# Altium footprint library PcbLib1.PcbLib: 2 footprints
Each footprint in its own frame and in the unit in brackets; x right, y up, seen from the top. Pads: shape width x height; smd on the part's side, far side on the other; paste and mask are expansions set on the pad; w line width, h text height; cw(c..) or ccw(c..) is an arc to the next point about the centre after c.
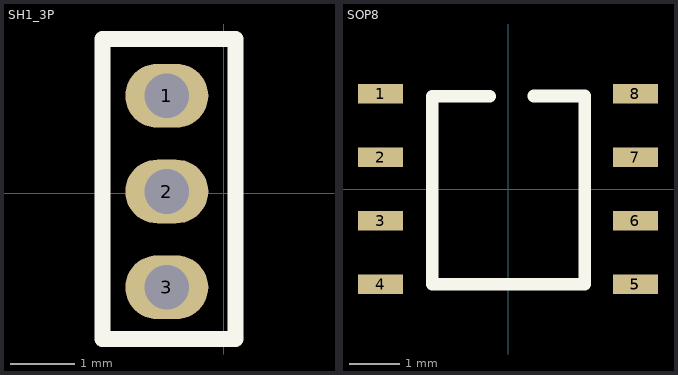
[diagram p0: the footprints below, top view; thin cyan lines are the x and y axes]

## SH1_3P [mm]
pads (3):
  oval 1.3x1 hole 0.7: 1(-0.889,1.524) 2(-0.889,0.024) 3(-0.889,-1.476)
Top Overlay:
  lines w0.254: -1.895,-2.286 -1.895,2.413 0.186,2.413 0.186,-2.286 -1.895,-2.286
3D body "HS1mm.STEP": height 3.5, standoff -1.88, extent -5.822,-3.85 1.2,3.85

## SOP8 [mm]
pads (9):
  rect 0.9x0.4 smd: 1(-2.56,1.905) 2(-2.56,0.635) 3(-2.56,-0.635) 4(-2.56,-1.905) 5(2.54,-1.905) 5(2.54,-1.905) 6(2.54,-0.635) 7(2.54,0.635) 8(2.54,1.905)
Top Overlay:
  lines w0.254: -0.381,1.855 -1.524,1.855 -1.524,-1.905 1.524,-1.905 1.524,1.859 0.508,1.859
3D body "AS.STEP": height 1.75, standoff 0, extent -2.75,-2.45 2.75,2.45